# EAGLE library part SMC_RS485 (library Limnotech)
Layout for connecting SMC RS-485 module Module <https://www.amazon.com/SMAKN%C2%AE-Adapter-Serial-Converter-Module/dp/B010723BCE>
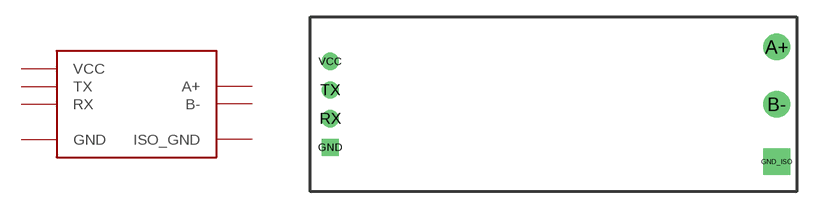
[diagram p0: symbol with the pads of SMC_RS485; footprint SMC_RS485]

Designator prefix -

## SMC_RS485  [SMC_RS485]
A+  A+
B-  B-
GND  GND
GND_ISO  ISO_GND
RX  RX
TX  TX
VCC  VCC

## Footprint SMC_RS485 (pad centres in mm)
drill 1.57: A+ 19.75,5.08; B- 19.75,0
drill 1.016 square: GND -19.75,-3.81
drill 1.57 square: GND_ISO 19.75,-5.08
drill 1.016: RX -19.75,-1.27; TX -19.75,1.27; VCC -19.75,3.81